# Altium schematic symbol library Schlib1.SchLib: 1 symbol
Pins are listed as number, name and electrical type; pins without a type are passive.

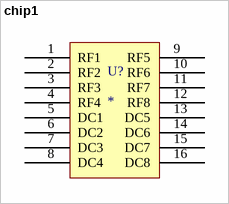
[diagram p0: symbol chip1]

## chip1
designator U?
pins: 1 RF1, 2 RF2, 3 RF3, 4 RF4, 5 DC1, 6 DC2, 7 DC3, 8 DC4, 9 RF5, 10 RF6, 11 RF7, 12 RF8, 13 DC5, 14 DC6, 15 DC7, 16 DC8